# Altium schematic symbol library DigitSensors.SchLib: 1 symbol
Pins are listed as number, name and electrical type; pins without a type are passive.

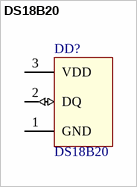
[diagram p0: symbol DS18B20]

## DS18B20
designator DD?
Temperature Sensor, TO-92
footprint TO-92
pins: 1 GND (power), 2 DQ (io), 3 VDD (power)